# Altium footprint library capstone_v1.1.PcbLib: 5 footprints
Each footprint in its own frame and in the unit in brackets; x right, y up, seen from the top. Pads: shape width x height; smd on the part's side, far side on the other; paste and mask are expansions set on the pad; w line width, h text height; cw(c..) or ccw(c..) is an arc to the next point about the centre after c.
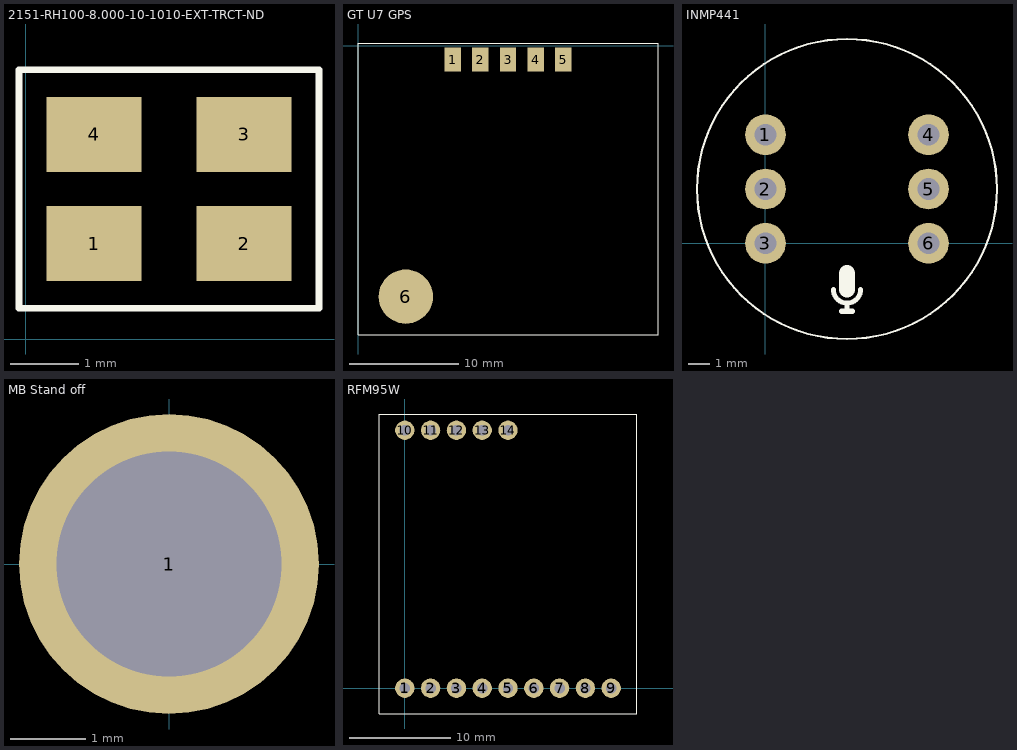
[diagram p0: the footprints below, top view; thin cyan lines are the x and y axes]

## 2151-RH100-8.000-10-1010-EXT-TRCT-ND [mm] "8 MHz Oscillator"
pads (4):
  rect 1.4x1.1 smd: 1(1,1.4) 2(3.2,1.4) 3(3.2,3) 4(1,3)
Top Overlay:
  lines w0.1: -0.1,0.45 -0.1,3.95 4.3,3.95 4.3,0.45 -0.1,0.45

## GT U7 GPS [mm] "GT U7 GPS Footprint"
height 25.4
pads (6):
  rect 1.5x2.2 smd: 1(8.72,-1.3) 2(11.26,-1.3) 3(13.8,-1.3) 4(16.34,-1.3) 5(18.88,-1.3)
  round 5 smd: 6(4.4,-23.1)
Top Overlay:
  lines w0.1: 0,-26.6 27.6,-26.6 27.6,0.2 0,0.2 0,-26.6

## INMP441 [mil] "Footprint for INMP441 Microphone"
height 0.3
pads (6):
  round 75 hole 40: 1(0,200) 2(0,100) 3(0,0) 4(300,200) 5(300,100) 6(300,0)
Top Overlay:
  circle w3.94: c150,100 r276
  lines w9: 125,-85 ccw(c150,-85) 175,-85
  lines w10: 150,-115 150,-125 140,-125 160,-125
  lines w30: 150,-85 150,-55

## MB Stand off [mm]
height 10
pads (1):
  round 4 hole 3: 1(0,0)

## RFM95W [mil] "LoRa"
height 1150
pads (14):
  round 75 hole 40: 1(0,0) 2(100,0) 3(200,0) 4(300,0) 5(400,0) 6(500,0) 7(600,0) 8(700,0) 9(800,0) 10(0,1000) 11(100,1000) 12(200,1000) 13(300,1000) 14(400,1000)
Top Overlay:
  lines w3.94: -100,-100 900,-100 900,1050 900,1062.99 -100,1062.99 -100,1050 -100,0 -100,-100